# EAGLE library part LEDMATRIX (library BW-Active)
SODIAL 8x8 LED matrix
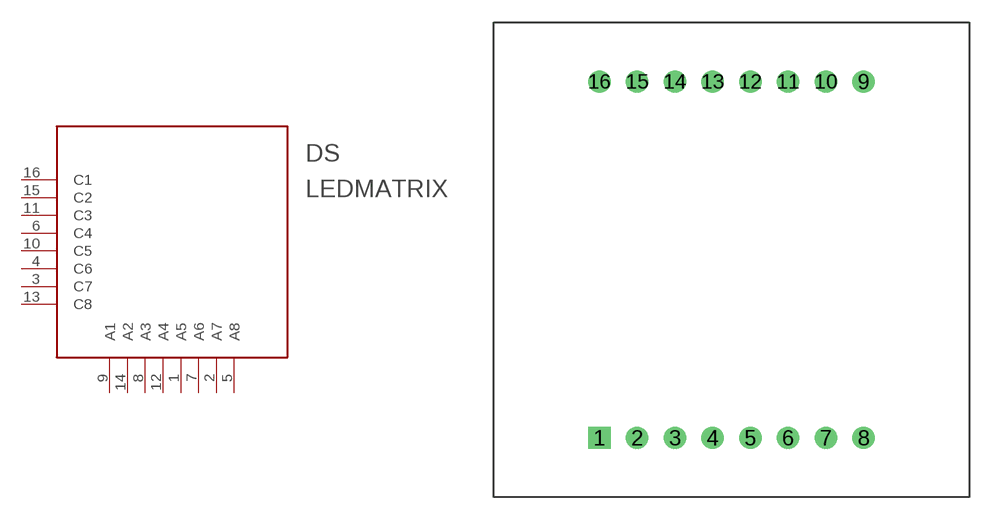
[diagram p18: symbol with the pads of LEDMATRIX; footprint LEDMATRIX]

Designator prefix DS

## LEDMATRIX  [LEDMATRIX]
1  A5
2  A7
3  C7
4  C6
5  A8
6  C4
7  A6
8  A3
9  A1
10  C5
11  C3
12  A4
13  C8
14  A2
15  C2
16  C1

## Footprint LEDMATRIX (pad centres in mm)
drill 1 square: 1 -8.89,-12
drill 1: 2 -6.35,-12; 3 -3.81,-12; 4 -1.27,-12; 5 1.27,-12; 6 3.81,-12; 7 6.35,-12; 8 8.89,-12; 9 8.89,12; 10 6.35,12; 11 3.81,12; 12 1.27,12; 13 -1.27,12; 14 -3.81,12; 15 -6.35,12; 16 -8.89,12